# EAGLE library part AS-ITM-00239 (library tinycircuits)
TINYLOGIC DUAL OR GATE US8
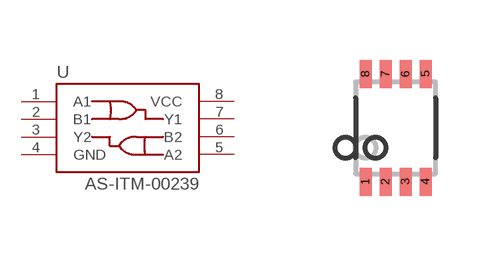
[diagram p101: symbol with the pads of US8; footprint US8]

Designator prefix U

## AS-ITM-00239 (PARTNO: AS-ITM-00239; VALUE: NC7WZ32)  [US8]
1  A1
2  B1
3  Y2
4  GND
5  A2
6  B2
7  Y1
8  VCC

## Footprint US8 (pad centres in mm)
smd 0.3 x 0.7: 1 -0.75,-1.35; 2 -0.25,-1.35; 3 0.25,-1.35; 4 0.75,-1.35; 5 0.75,1.35; 6 0.25,1.35; 7 -0.25,1.35; 8 -0.75,1.35